# Altium footprint library batteries.PcbLib: 22 footprints (part 2 of 2)
Each footprint in its own frame and in the unit in brackets; x right, y up, seen from the top. Pads: shape width x height; smd on the part's side, far side on the other; paste and mask are expansions set on the pad; w line width, h text height; cw(c..) or ccw(c..) is an arc to the next point about the centre after c.
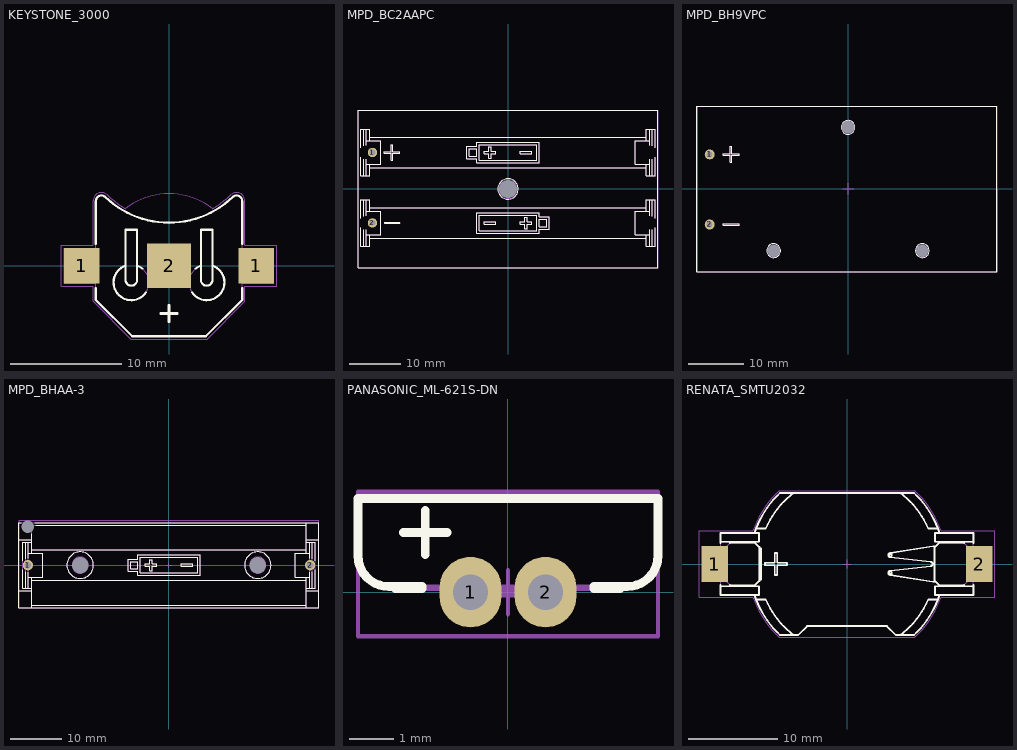
[diagram p1: the footprints below, top view; thin cyan lines are the x and y axes]

## KEYSTONE_3000 [mm] "SMD Battery Holder for BR1216, CR1216, BR1220, CL1220, CR1220, BR1225 Coin Cells"
height 3.175
pads (3):
  rect 3.175x3.175 smd: 1(-7.873,0) 1(7.873,0)
  rect 4x4 smd paste-2: 2(0,0)
Top Overlay:
  lines w0.2: -6.6,-1.988 -6.6,-3.075 -3.325,-6.35 3.325,-6.35 6.6,-3.075 6.6,-1.988 ; -6.6,1.988 -6.6,5.85 cw(c-6.098,5.848) -5.75,6.21 ccw(c0,12.175) 5.75,6.21 cw(c6.099,5.849) 6.6,5.85 6.6,1.988 ; -3.921,-1.335 -3.921,3.255 ; -3.921,-1.335 ccw(c-3.4,-1.263) -2.879,-1.335 -2.879,3.255 ; -2.077,-2.4 cw(c-3.4,-1.5) -3.921,0.013 -3.921,3.255 ; 3.921,-1.335 cw(c3.4,-1.263) 2.879,-1.335 2.879,3.255 ; 3.921,-1.335 3.921,3.255 2.879,3.255 ; -3.921,3.255 -2.879,3.255 ; -3.921,3.255 -2.879,3.255 ; -2.879,0.013 cw(c-3.4,-1.5) -2.4,-0.251 ccw(c-3.4,-1.5) -2.879,0.013 ; -2.879,0.013 -2.879,3.255 ; 2.879,0.013 ccw(c3.4,-1.5) 2.4,-0.251 cw(c3.4,-1.5) 2.879,0.013 ; 2.879,0.013 2.879,3.255 ; 2.879,3.255 3.921,3.255 3.921,0.013 ; 3.921,0.013 cw(c3.4,-1.5) 2.077,-2.4 ccw(c3.4,-1.5) 3.921,0.013 ; -0.75,-4.322 -0.025,-4.322 -0.025,-5.047 0.025,-5.047 0.025,-4.322 0.75,-4.322 0.75,-4.272 0.025,-4.272 0.025,-3.547 -0.025,-3.547 -0.025,-4.272 -0.75,-4.272 -0.75,-4.322
Mechanical 1:
  circle w0.1: c-8.03,-0.001 r0.6
  circle w0.1: c8.03,-0.001 r0.6
  lines w0.1: -6.6,-1.59 -9.46,-1.59 -9.46,1.59 -6.6,1.59 ; -3.921,-1.335 -3.921,3.255 ; -3.921,-1.335 ccw(c-3.4,-1.263) -2.879,-1.335 -2.879,3.255 ; 3.921,-1.335 cw(c3.4,-1.263) 2.879,-1.335 2.879,3.255 ; 3.921,-1.335 3.921,3.255 2.879,3.255 ; 6.6,-1.59 9.46,-1.59 9.46,1.59 6.6,1.59 ; -3.921,0.013 ccw(c-3.4,-1.5) -2.879,0.013 ; -3.921,0.013 ccw(c-3.4,-1.5) -2.879,0.013 ; -3.921,0.013 -3.921,3.255 ; -3.921,3.255 -2.879,3.255 ; -3.921,3.255 -2.879,3.255 ; -2.879,0.013 -2.879,3.255 ; 2.879,0.013 ccw(c3.4,-1.5) 3.921,0.013 ; 2.879,0.013 ccw(c3.4,-1.5) 3.921,0.013 ; 2.879,0.013 2.879,3.255 ; 2.879,3.255 3.921,3.255 3.921,0.013 ; -6.6,-3.075 -6.6,5.85 cw(c-6.098,5.848) -5.75,6.21 ccw(c0,12.175) 5.75,6.21 cw(c6.099,5.849) 6.6,5.85 6.6,-3.075 3.325,-6.35 -3.325,-6.35 -6.6,-3.075 ; -0.75,-4.322 -0.025,-4.322 -0.025,-5.047 0.025,-5.047 0.025,-4.322 0.75,-4.322 0.75,-4.272 0.025,-4.272 0.025,-3.547 -0.025,-3.547 -0.025,-4.272 -0.75,-4.272 -0.75,-4.322
Mechanical 15:
  lines w0.1: -6.85,5.85 -6.85,1.84 -9.71,1.84 -9.71,-1.84 -6.85,-1.84 -6.85,-3.179 -3.429,-6.6 3.429,-6.6 6.85,-3.179 6.85,-1.84 9.71,-1.84 9.71,1.84 6.85,1.84 6.85,5.85 ; -6.85,5.851 cw(c-6.098,5.848) -5.577,6.39 ; -5.577,6.39 ccw(c0,12.175) -3.938,5.171 cw(c0,0) 3.938,5.171 ccw(c0,12.175) 5.577,6.39 cw(c6.099,5.849) 6.85,5.85 ; -0.5,0 0,0 ; 0,-0.5 0,0 ; 0,0.5 0,0 ; 0.5,0 0,0
3D body "BATH_KEYSTONE_3000.stp": height 3.17, standoff 0, extent -9.46,-6.35 9.46,6.351

## MPD_BC2AAPC [mm] "THD Battery Holder for 2 Cell AA, LR6, HR6, L91 Cylindrical Batteties"
height 15
pads (3):
  round 1.8 hole 1.1 unplated: 1(-26.16,7.054) 2(-26.16,-6.546)
  rect 0x0 hole 3.56 unplated: MECH(0,0)
Top Overlay:
  circle w0.2: c0,0 r1.975
  lines w0.2: -28.425,-7.458 -28.425,-11.051 -26.655,-11.051 -26.655,-8.851 ; -28.425,-5.644 -28.425,-2.051 -26.655,-2.051 -26.655,-4.251 ; -28.425,6.15 -28.425,2.557 -26.655,2.557 -26.655,4.757 ; -28.425,7.964 -28.425,11.557 -26.655,11.557 -26.655,9.357 ; -27.86,-11.051 -27.86,-7.829 ; -27.86,-5.273 -27.86,-2.051 ; -27.86,2.557 -27.86,5.779 ; -27.86,8.335 -27.86,11.557 ; -27.35,-11.051 -27.35,-7.899 ; -27.35,-8.851 -24.54,-8.851 -24.54,-4.251 -27.35,-4.251 ; -27.35,-5.203 -27.35,-2.051 ; -27.35,2.557 -27.35,5.709 ; -27.35,4.757 -24.54,4.757 -24.54,9.357 -27.35,9.357 ; -27.35,8.405 -27.35,11.557 ; 26.665,-8.851 26.665,-11.051 28.435,-11.051 28.435,-7.458 ; 26.665,-4.251 26.665,-2.051 28.435,-2.051 28.435,-5.644 ; 26.665,4.757 26.665,2.557 28.435,2.557 28.435,6.15 ; 26.665,9.357 26.665,11.557 28.435,11.557 28.435,7.964 ; 27.36,-11.051 27.36,-7.899 ; 27.36,-8.851 24.55,-8.851 24.55,-4.251 27.36,-4.251 ; 27.36,-5.203 27.36,-2.051 ; 27.36,2.557 27.36,5.709 ; 27.36,4.757 24.55,4.757 24.55,9.357 27.36,9.357 ; 27.36,8.405 27.36,11.557 ; 27.87,-11.051 27.87,-7.829 ; 27.87,-5.273 27.87,-2.051 ; 27.87,2.557 27.87,5.779 ; 27.87,8.335 27.87,11.557 ; -28.956,-15.24 -28.956,15.24 28.956,15.24 28.956,-15.24 -28.956,-15.24 ; -26.655,-9.506 26.665,-9.506 -26.655,-9.506 ; -26.655,-3.596 26.665,-3.596 -26.655,-3.596 ; -26.655,4.102 26.665,4.102 -26.655,4.102 ; -26.655,10.012 26.665,10.012 -26.655,10.012 ; -23.85,6.925 -23.85,7.179 -22.516,7.179 -22.516,8.513 -22.262,8.513 -22.262,7.179 -20.929,7.179 -20.929,6.925 -22.262,6.925 -22.262,5.592 -22.516,5.592 -22.516,6.925 -23.85,6.925 ; -23.775,-6.65 -22.441,-6.65 -20.854,-6.65 -20.854,-6.396 -22.441,-6.396 -23.775,-6.396 -23.775,-6.65 ; -7.947,5.857 -6.047,5.857 -6.047,5.057 6.057,5.057 6.057,9.057 -6.047,9.057 -6.047,8.257 -7.947,8.257 -7.947,5.857 ; -7.447,6.357 -6.047,6.357 -6.047,7.757 -7.447,7.757 -7.447,6.357 ; -6.047,-8.551 6.057,-8.551 6.057,-7.751 7.957,-7.751 7.957,-5.351 6.057,-5.351 6.057,-4.551 -6.047,-4.551 -6.047,-8.551 ; -5.547,-8.051 5.557,-8.051 5.557,-5.051 -5.547,-5.051 -5.547,-8.051 ; -5.547,5.557 5.557,5.557 5.557,8.557 -5.547,8.557 -5.547,5.557 ; -4.595,-6.801 -2.395,-6.801 -2.395,-6.301 -4.595,-6.301 -4.595,-6.801 ; -4.595,6.807 -3.745,6.807 -3.745,5.957 -3.245,5.957 -3.245,6.807 -2.395,6.807 -2.395,7.307 -3.245,7.307 -3.245,8.157 -3.745,8.157 -3.745,7.307 -4.595,7.307 -4.595,6.807 ; 2.405,-6.801 3.255,-6.801 3.255,-7.651 3.755,-7.651 3.755,-6.801 4.605,-6.801 4.605,-6.301 3.755,-6.301 3.755,-5.451 3.255,-5.451 3.255,-6.301 2.405,-6.301 2.405,-6.801 ; 2.405,6.807 4.605,6.807 4.605,7.307 2.405,7.307 2.405,6.807 ; 6.057,-7.251 6.057,-5.851 7.457,-5.851 7.457,-7.251 6.057,-7.251
Mechanical 1:
  circle w0.1: c0,0 r1.825
  lines w0.1: -28.42,-7.465 -28.42,-11.058 -26.65,-11.058 -26.65,-8.858 ; -28.42,-5.651 -28.42,-2.058 -26.65,-2.058 -26.65,-4.258 ; -28.42,6.143 -28.42,2.55 -26.65,2.55 -26.65,4.75 ; -28.42,7.957 -28.42,11.55 -26.65,11.55 -26.65,9.35 ; -27.855,-11.058 -27.855,-7.836 ; -27.855,-5.28 -27.855,-2.058 ; -27.855,2.55 -27.855,5.772 ; -27.855,8.328 -27.855,11.55 ; -27.345,-11.058 -27.345,-7.906 ; -27.345,-8.858 -24.535,-8.858 -24.535,-4.258 -27.345,-4.258 ; -27.345,-5.21 -27.345,-2.058 ; -27.345,2.55 -27.345,5.702 ; -27.345,4.75 -24.535,4.75 -24.535,9.35 -27.345,9.35 ; -27.345,8.398 -27.345,11.55 ; 26.67,-8.858 26.67,-11.058 28.44,-11.058 28.44,-7.465 ; 26.67,-4.258 26.67,-2.058 28.44,-2.058 28.44,-5.651 ; 26.67,4.75 26.67,2.55 28.44,2.55 28.44,6.143 ; 26.67,9.35 26.67,11.55 28.44,11.55 28.44,7.957 ; 27.365,-11.058 27.365,-7.906 ; 27.365,-8.858 24.555,-8.858 24.555,-4.258 27.365,-4.258 ; 27.365,-5.21 27.365,-2.058 ; 27.365,2.55 27.365,5.702 ; 27.365,4.75 24.555,4.75 24.555,9.35 27.365,9.35 ; 27.365,8.398 27.365,11.55 ; 27.875,-11.058 27.875,-7.836 ; 27.875,-5.28 27.875,-2.058 ; 27.875,2.55 27.875,5.772 ; 27.875,8.328 27.875,11.55 ; -28.956,-15.24 28.956,-15.24 28.956,15.24 -28.956,15.24 -28.956,-15.24 ; -26.65,-9.513 26.67,-9.513 -26.65,-9.513 ; -26.65,-3.603 26.67,-3.603 -26.65,-3.603 ; -26.65,4.095 26.67,4.095 -26.65,4.095 ; -26.65,10.005 26.67,10.005 -26.65,10.005 ; -23.845,6.918 -23.845,7.172 -22.511,7.172 -22.511,8.506 -22.257,8.506 -22.257,7.172 -20.924,7.172 -20.924,6.918 -22.257,6.918 -22.257,5.585 -22.511,5.585 -22.511,6.918 -23.845,6.918 ; -23.77,-6.657 -23.77,-6.403 -22.436,-6.403 -20.849,-6.403 -20.849,-6.657 -22.436,-6.657 -23.77,-6.657 ; -7.942,5.85 -6.042,5.85 -6.042,5.05 6.062,5.05 6.062,9.05 -6.042,9.05 -6.042,8.25 -7.942,8.25 -7.942,5.85 ; -7.442,6.35 -6.042,6.35 -6.042,7.75 -7.442,7.75 -7.442,6.35 ; -6.042,-8.558 -6.042,-4.558 6.062,-4.558 6.062,-5.358 7.962,-5.358 7.962,-7.758 6.062,-7.758 6.062,-8.558 -6.042,-8.558 ; -5.542,-8.058 -5.542,-5.058 5.562,-5.058 5.562,-8.058 -5.542,-8.058 ; -5.542,5.55 5.562,5.55 5.562,8.55 -5.542,8.55 -5.542,5.55 ; -4.59,-6.808 -4.59,-6.308 -2.39,-6.308 -2.39,-6.808 -4.59,-6.808 ; -4.59,6.8 -3.74,6.8 -3.74,5.95 -3.24,5.95 -3.24,6.8 -2.39,6.8 -2.39,7.3 -3.24,7.3 -3.24,8.15 -3.74,8.15 -3.74,7.3 -4.59,7.3 -4.59,6.8 ; 2.41,-6.808 2.41,-6.308 3.26,-6.308 3.26,-5.458 3.76,-5.458 3.76,-6.308 4.61,-6.308 4.61,-6.808 3.76,-6.808 3.76,-7.658 3.26,-7.658 3.26,-6.808 2.41,-6.808 ; 2.41,6.8 2.41,7.3 4.61,7.3 4.61,6.8 2.41,6.8 ; 6.062,-7.258 6.062,-5.858 7.462,-5.858 7.462,-7.258 6.062,-7.258
Mechanical 15:
  lines w0.1: -1,0 1,0 ; 0,-1 0,1 ; -28.959,-15.243 28.957,-15.243 28.957,15.235 -28.959,15.235 -28.959,-15.243
3D body "MPD - BC2AAPC.step": height 15, standoff -7.37, extent -29,-15.25 29,15.25

## MPD_BH9VPC [mm] "THD Battery Holder for 9V"
height 20.62
pads (5):
  round 1.8 hole 1.1 unplated: 1(-25.087,6.265) 2(-25.087,-6.435)
  rect 0x0 hole 2.29 unplated: MECH(-13.487,-11.175) MECH(0.003,11.175) MECH(13.483,-11.175)
Top Overlay:
  circle w0.2: c13.483,-11.175 r1.258
  circle w0.2: c-13.487,-11.175 r1.263
  circle w0.2: c0.003,11.175 r1.253
  lines w0.2: -27.387,-15 -27.387,15 27.013,15 27.013,-15 -27.387,-15 ; -22.65,-6.575 -22.65,-6.321 -21.317,-6.321 -19.729,-6.321 -19.729,-6.575 -21.317,-6.575 -22.65,-6.575 ; -22.65,6.15 -21.317,6.15 -21.317,4.817 -21.063,4.817 -21.063,6.15 -19.729,6.15 -19.729,6.404 -21.063,6.404 -21.063,7.738 -21.317,7.738 -21.317,6.404 -22.65,6.404 -22.65,6.15
Mechanical 1:
  circle w0.1: c13.484,-11.175 r1.2
  circle w0.1: c-13.489,-11.174 r1.2
  circle w0.1: c0,11.175 r1.2
  lines w0.1: -27.387,-15 27.013,-15 27.013,15 -27.387,15 -27.387,-15 ; -22.649,-6.573 -22.649,-6.319 -21.315,-6.319 -19.728,-6.319 -19.728,-6.573 -21.315,-6.573 -22.649,-6.573 ; -22.649,6.152 -21.315,6.152 -21.315,4.818 -21.061,4.818 -21.061,6.152 -19.728,6.152 -19.728,6.406 -21.061,6.406 -21.061,7.739 -21.315,7.739 -21.315,6.406 -22.649,6.406 -22.649,6.152
Mechanical 15:
  lines w0.1: -1,0 1,0 ; 0,-1 0,1 ; -27.386,-15.002 -27.386,14.995 27.015,14.995 27.015,-15.002 -27.386,-15.002
3D body "MPD - BH9VPC.step": height 20.62, standoff -6.6, extent -27.314,-14.99 27.042,14.982

## MPD_BHAA-3 [mm] "THD Battery Holder 1 Cell AA"
height 19.81
pads (5):
  round 2 hole 1.3: 1(-27.43,0) 2(27.43,0)
  round 1 hole 2.4 unplated mask+0.7: MECH(-27.43,7.47)
  round 1 hole 3.2 unplated mask+1.1: MECH(-17.27,0) MECH(17.27,0)
Top Overlay:
  circle w0.2: c-17.27,0 r2.58
  circle w0.2: c17.27,0 r2.58
  lines w0.2: -29.16,-4.955 -26.66,-4.955 ; -29.16,4.955 -26.66,4.955 ; -28.767,8.255 -29.16,8.255 -29.16,-8.255 29.16,-8.255 29.16,8.255 -26.093,8.255 ; -28.43,-0.907 -28.43,-4.5 -26.66,-4.5 ; -28.43,0.907 -28.43,4.5 -26.66,4.5 ; -27.865,-4.5 -27.865,-1.278 ; -27.865,1.278 -27.865,4.5 ; -27.355,-4.5 -27.355,-1.348 ; -27.355,-2.3 -24.545,-2.3 -24.545,2.3 -27.355,2.3 ; -27.355,1.348 -27.355,4.5 ; -26.66,-8.24 -26.66,-2.3 ; -26.66,-7.755 26.66,-7.755 ; -26.66,2.3 -26.66,6.125 ; -25.906,7.755 26.66,7.755 ; 26.66,-8.255 26.66,-2.3 ; 26.66,-4.955 29.16,-4.955 ; 26.66,-4.5 28.43,-4.5 28.43,-0.907 ; 26.66,2.3 26.66,8.24 ; 26.66,4.5 28.43,4.5 28.43,0.907 ; 26.66,4.955 29.16,4.955 ; 27.355,-4.5 27.355,-1.348 ; 27.355,-2.3 24.545,-2.3 24.545,2.3 27.355,2.3 ; 27.355,1.348 27.355,4.5 ; 27.865,-4.5 27.865,-1.278 ; 27.865,1.278 27.865,4.5 ; -26.66,-2.955 26.66,-2.955 -26.66,-2.955 ; -26.66,2.955 26.66,2.955 -26.66,2.955 ; -7.952,-1.2 -6.052,-1.2 -6.052,-2 6.052,-2 6.052,2 -6.052,2 -6.052,1.2 -7.952,1.2 -7.952,-1.2 ; -7.452,-0.7 -7.452,0.7 -6.052,0.7 -6.052,-0.7 -7.452,-0.7 ; -5.552,-1.5 5.552,-1.5 5.552,1.5 -5.552,1.5 -5.552,-1.5 ; -4.6,-0.25 -3.75,-0.25 -3.75,-1.1 -3.25,-1.1 -3.25,-0.25 -2.4,-0.25 -2.4,0.25 -3.25,0.25 -3.25,1.1 -3.75,1.1 -3.75,0.25 -4.6,0.25 -4.6,-0.25 ; 2.4,-0.25 4.6,-0.25 4.6,0.25 2.4,0.25 2.4,-0.25
Mechanical 1:
  circle w0.1: c17.27,0 r1.59
  circle w0.1: c17.27,0 r2.58
  circle w0.1: c-17.27,0 r1.59
  circle w0.1: c-17.27,0 r2.58
  lines w0.1: -29.16,-4.955 -26.66,-4.955 ; -29.16,4.955 -26.66,4.955 ; -27.865,-4.5 -27.865,4.5 ; -27.355,-4.5 -27.355,4.5 ; -27.355,-2.3 -24.545,-2.3 -24.545,2.3 -27.355,2.3 ; -26.731,7.755 26.66,7.755 ; -26.66,-8.24 -26.66,-2.3 ; -26.66,-7.755 26.66,-7.755 ; -26.66,-4.5 -28.43,-4.5 -28.43,4.5 -26.66,4.5 ; -26.66,2.3 -26.66,8.255 ; 26.66,-8.255 26.66,-2.3 ; 26.66,-4.955 29.16,-4.955 ; 26.66,-4.5 28.43,-4.5 28.43,4.5 26.66,4.5 ; 26.66,2.3 26.66,8.24 ; 26.66,4.955 29.16,4.955 ; 27.355,-4.5 27.355,4.5 ; 27.355,-2.3 24.545,-2.3 24.545,2.3 27.355,2.3 ; 27.865,-4.5 27.865,4.5 ; -29.16,-8.255 29.16,-8.255 29.16,8.255 -29.16,8.255 -29.16,-8.255 ; -26.66,-2.955 26.66,-2.955 -26.66,-2.955 ; -26.66,2.955 26.66,2.955 -26.66,2.955 ; -7.952,-1.2 -6.052,-1.2 -6.052,-2 6.052,-2 6.052,2 -6.052,2 -6.052,1.2 -7.952,1.2 -7.952,-1.2 ; -7.452,-0.7 -6.052,-0.7 -6.052,0.7 -7.452,0.7 -7.452,-0.7 ; -5.552,-1.5 5.552,-1.5 5.552,1.5 -5.552,1.5 -5.552,-1.5 ; -4.6,-0.25 -3.75,-0.25 -3.75,-1.1 -3.25,-1.1 -3.25,-0.25 -2.4,-0.25 -2.4,0.25 -3.25,0.25 -3.25,1.1 -3.75,1.1 -3.75,0.25 -4.6,0.25 -4.6,-0.25 ; 2.4,-0.25 2.4,0.25 4.6,0.25 4.6,-0.25 2.4,-0.25
Mechanical 15:
  lines w0.1: -0.5,0 0,0 ; 0,-0.5 0,0 ; 0,0.5 0,0 ; 0.5,0 0,0 ; -29.15,-8.26 29.17,-8.26 29.17,8.725 -29.15,8.725 -29.15,-8.26
3D body "BATH_MPD_BHAA-3.stp": height 19.81, standoff -4.29, extent -29.16,-8.255 29.16,8.255

## PANASONIC_ML-621S-DN [mm] "6.8mm Diameter x 2.55mm Height Rechargeable 3V, 5mAh, Lithium Coin Cells, ML Series"
height 2.55
pads (2):
  oval 1.4x1.6 hole 0.8: 1(-0.85,0) 2(0.85,0)
Top Overlay:
  lines w0.2: -2.55,0.125 -2.55,0.075 -1.948,0.075 ; -2.375,1.35 -1.875,1.35 ; -1.943,0.125 -2.7,0.125 cw(c-2.7,0.825) -3.4,0.825 -3.4,2.125 3.4,2.125 3.4,0.825 cw(c2.7,0.825) 2.7,0.125 1.944,0.125 ; -1.875,0.85 -1.875,1.35 ; -1.875,1.85 -1.875,1.35 ; -1.375,1.35 -1.875,1.35 ; 1.948,0.075 2.543,0.075 2.543,0.125
Mechanical 1:
  lines w0.1: -2.55,0.125 -2.55,0.075 2.543,0.075 2.543,0.125 ; -2.375,1.35 -1.875,1.35 ; -1.875,0.85 -1.875,1.35 ; -1.875,1.85 -1.875,1.35 ; -1.375,1.35 -1.875,1.35 ; -1.05,-0.075 -1.05,0.075 ; -1,-0.075 1,-0.075 ; 1.05,-0.075 1.05,0.075 ; -3.4,0.825 ccw(c-2.7,0.825) -2.7,0.125 2.7,0.125 ccw(c2.7,0.825) 3.4,0.825 3.4,2.125 -3.4,2.125 -3.4,0.825
Mechanical 15:
  lines w0.1: -0.5,0 0,0 ; 0,-0.5 0,0 ; 0,0.5 0,0 ; 0.5,0 0,0 ; -3.4,-1 3.4,-1 3.4,2.275 -3.4,2.275 -3.4,-1
3D body "BAT_PANASONIC_ML-621S-DN.stp": height 7.4, standoff -1.85, extent -3.4,-0.075 3.4,2.275

## RENATA_SMTU2032 [mm] "SMD Battery Holder for CR2032 Coin Cells"
height 5.6
pads (2):
  rect 3x4 smd: 1(-14.9,0) 2(14.9,0)
Top Overlay:
  circle w0.2: c4.9,1 r0.15
  circle w0.2: c4.9,-1 r0.15
  lines w0.2: -14.25,-2.5 -9.928,-2.5 -9.928,-3.5 -14.25,-3.5 -14.25,-2.35 ; -14.25,2.35 -14.25,3.5 -9.928,3.5 -9.928,2.5 -14.25,2.5 ; -13.222,-2.35 -13.172,-2.4 -10.372,-2.4 -9.872,-1.9 -9.872,1.9 -10.372,2.4 -13.172,2.4 -13.222,2.35 ; -10.428,-3.5 ccw(c0,0) -7.55,-8 -5.5,-8 -4.5,-7 4.5,-7 5.5,-8 7.55,-8 ccw(c0,0) 10.428,-3.5 ; -10.428,3.5 cw(c0,0) -7.55,8 7.55,8 cw(c0,0) 10.428,3.5 ; -10.247,-4 -9.165,-4 ccw(c0,0) -6,-8 ; -10.247,4 -9.165,4 cw(c0,0) -6,8 ; -9.872,-1.75 -9.65,-1.75 -9.65,1.75 -9.872,1.75 ; 6,-8 ccw(c0,0) 9.165,-4 10.247,-4 ; 6,8 cw(c0,0) 9.165,4 10.247,4 ; 9.9,-1.928 9.9,-2 9.65,-2 4.861,-1.247 cw(c4.9,-1) 4.873,-0.752 9.435,-0.248 ccw(c9.4,0) 9.435,0.248 4.873,0.752 cw(c4.9,1) 4.861,1.247 9.65,2 9.9,2 9.9,1.928 ; 13.222,-2.35 13.172,-2.4 10.372,-2.4 9.872,-1.9 9.872,1.9 10.372,2.4 13.172,2.4 13.222,2.35 ; 14.25,-2.5 9.928,-2.5 9.928,-3.5 14.25,-3.5 14.25,-2.35 ; 14.25,2.35 14.25,3.5 9.928,3.5 9.928,2.5 14.25,2.5 ; -9.25,-0.15 -8.15,-0.15 -8.15,-1.25 -7.85,-1.25 -7.85,-0.15 -6.75,-0.15 -6.75,0.15 -7.85,0.15 -7.85,1.25 -8.15,1.25 -8.15,0.15 -9.25,0.15 -9.25,-0.15
Mechanical 1:
  circle w0.1: c4.9,1 r0.15
  circle w0.1: c4.9,-1 r0.15
  lines w0.1: -14.25,-2.5 -9.928,-2.5 -9.928,-3.5 -14.25,-3.5 -14.25,-1.75 ; -14.25,1.75 -14.25,3.5 -9.928,3.5 -9.928,2.5 -14.25,2.5 ; -13.672,-1.75 -16,-1.75 -16,1.75 -13.672,1.75 ; -10.428,-3.5 ccw(c0,0) -7.55,-8 -5.5,-8 -4.5,-7 4.5,-7 5.5,-8 7.55,-8 ccw(c0,0) 10.428,-3.5 ; -10.428,3.5 cw(c0,0) -7.55,8 7.55,8 cw(c0,0) 10.428,3.5 ; -10.247,-4 -9.165,-4 ccw(c0,0) -6,-8 ; -10.247,4 -9.165,4 cw(c0,0) -6,8 ; -9.872,-1.75 -9.65,-1.75 -9.65,1.75 -9.872,1.75 ; 6,-8 ccw(c0,0) 9.165,-4 10.247,-4 ; 6,8 cw(c0,0) 9.165,4 10.247,4 ; 9.9,-1.928 9.9,-2 9.65,-2 4.861,-1.247 cw(c4.9,-1) 4.873,-0.752 9.435,-0.248 ccw(c9.4,0) 9.435,0.248 4.873,0.752 cw(c4.9,1) 4.861,1.247 9.65,2 9.9,2 9.9,1.928 ; 13.672,-1.75 16,-1.75 16,1.75 13.672,1.75 ; 14.25,-2.5 9.928,-2.5 9.928,-3.5 14.25,-3.5 14.25,-1.75 ; 14.25,1.75 14.25,3.5 9.928,3.5 9.928,2.5 14.25,2.5 ; -13.672,-1.9 -13.672,1.9 -13.172,2.4 -10.372,2.4 -9.872,1.9 -9.872,-1.9 -10.372,-2.4 -13.172,-2.4 -13.672,-1.9 ; -9.25,-0.15 -8.15,-0.15 -8.15,-1.25 -7.85,-1.25 -7.85,-0.15 -6.75,-0.15 -6.75,0.15 -7.85,0.15 -7.85,1.25 -8.15,1.25 -8.15,0.15 -9.25,0.15 -9.25,-0.15 ; 9.872,-1.9 9.872,1.9 10.372,2.4 13.172,2.4 13.672,1.9 13.672,-1.9 13.172,-2.4 10.372,-2.4 9.872,-1.9
Mechanical 15:
  lines w0.1: -0.5,0 0,0 ; 0,-0.5 0,0 ; 0,0.5 0,0 ; 0.5,0 0,0 ; -16.65,-3.75 -16.65,3.75 -10.607,3.75 cw(c0,0) -7.649,8.25 7.649,8.25 cw(c0,0) 10.607,3.75 16.65,3.75 16.65,-3.75 10.607,-3.75 cw(c0,0) 7.649,-8.25 -7.649,-8.25 cw(c0,0) -10.607,-3.75 -16.65,-3.75
3D body "BATH_RENATA_SMTU2032.stp": height 5.6, standoff 0, extent -16,-8 16,8